# Altium footprint library MLACHQ_S.PCBLIB: 155 footprints (part 3 of 10)
Each footprint in its own frame and in the unit in brackets; x right, y up, seen from the top. Pads: shape width x height; smd on the part's side, far side on the other; paste and mask are expansions set on the pad; w line width, h text height; cw(c..) or ccw(c..) is an arc to the next point about the centre after c.
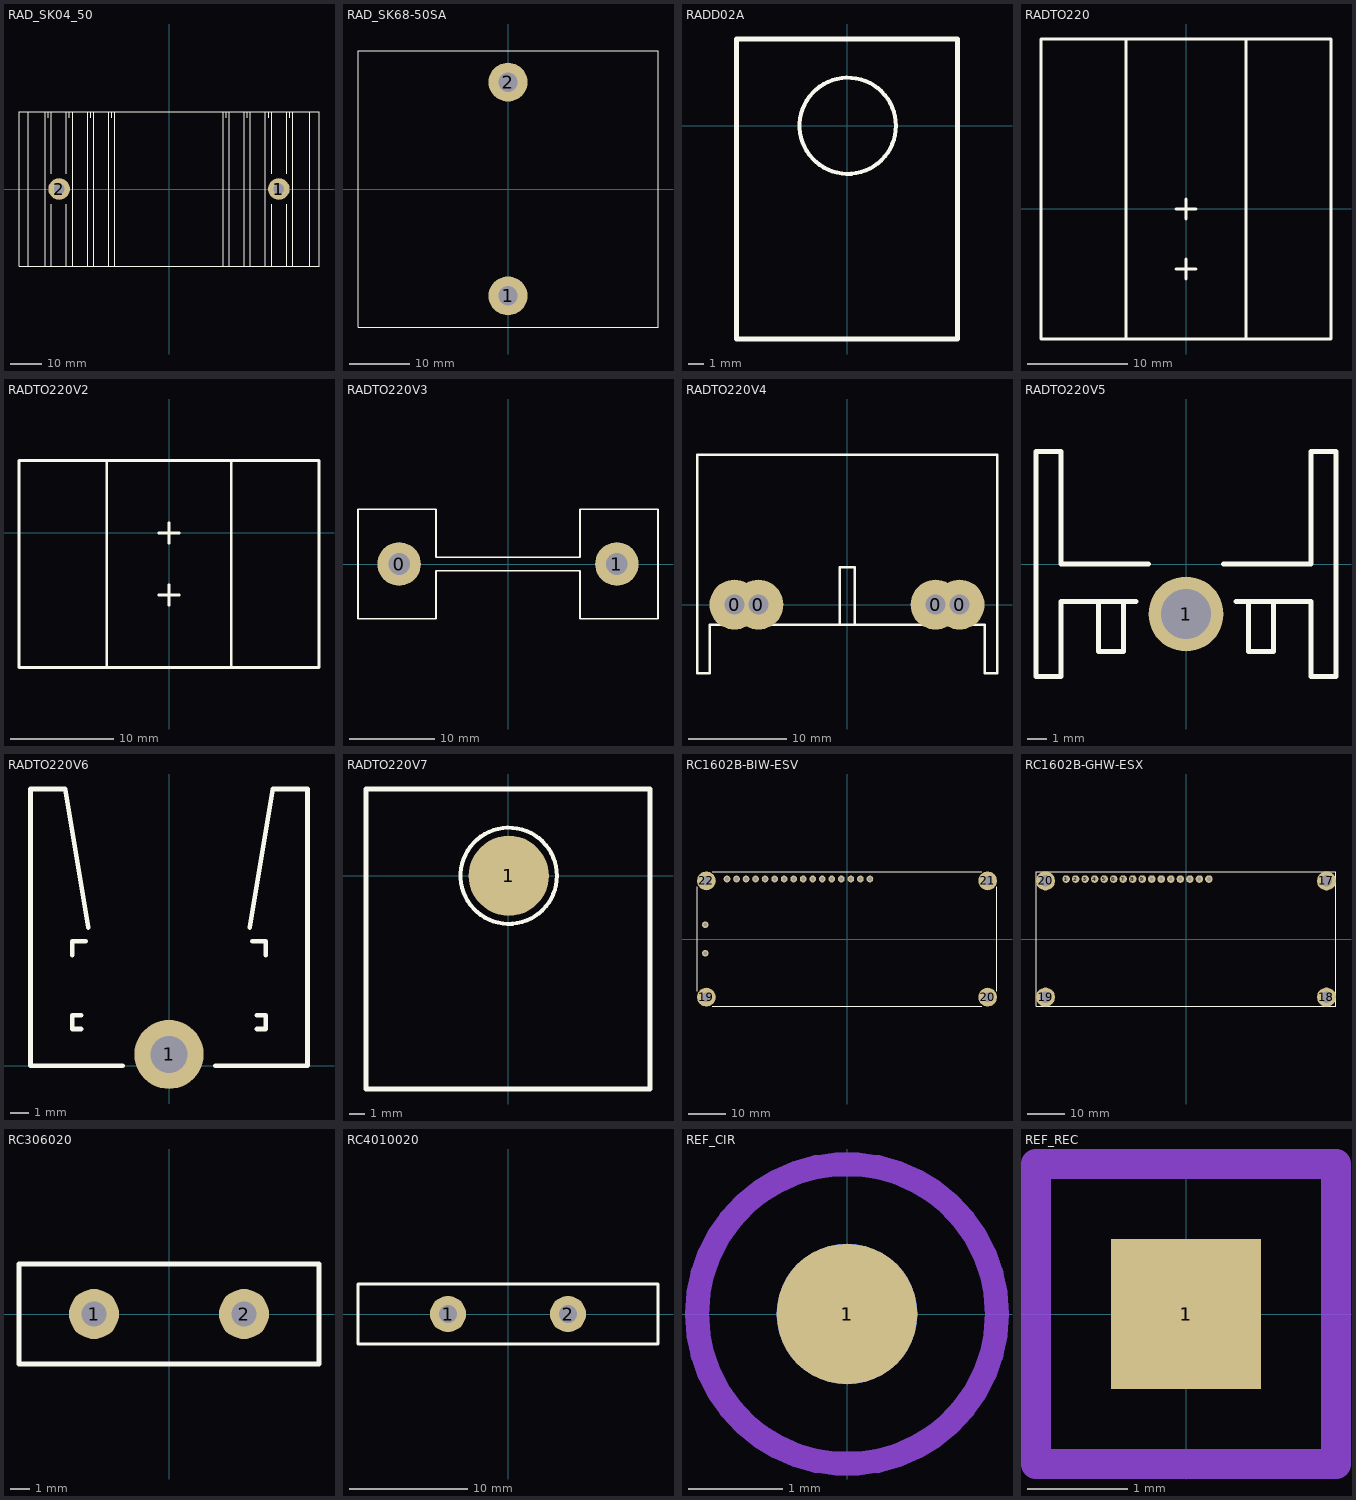
[diagram p2: the footprints below, top view; thin cyan lines are the x and y axes]

## RAD_SK04_50 [mm]
pads (2):
  round 7 hole 3.5: 1(35.5,0) 2(-35.5,0)
TopOverlay:
  lines w0.25: -45.5,-25 -45.5,25 ; -40,-25 -40,25 ; -39,23 -39,25 ; -38,-25 -38,-5 ; -38,5 -38,25 ; -33.2,-25 -33.2,-5 ; -33.2,5 -33.2,25 ; -32.2,23 -32.2,25 ; -31.2,-25 -31.2,25 ; -26.3,-25 -26.3,25 ; -25.3,23 -25.3,25 ; -24.3,-25 -24.3,25 ; -19.5,-25 -19.5,25 ; -18.5,23 -18.5,25 ; -17.5,-25 -17.5,25 ; 17.5,-25 17.5,25 ; 18.5,23 18.5,25 ; 19.5,-25 19.5,25 ; 24.3,-25 24.3,25 ; 25.3,23 25.3,25 ; 26.3,-25 26.3,25 ; 31.2,-25 31.2,25 ; 32.2,23 32.2,25 ; 33.2,-25 33.2,-5 ; 33.2,5 33.2,25 ; 38,-25 38,-5 ; 38,5 38,25 ; 39,23 39,25 ; 40,-25 40,25 ; 45.5,-25 45.5,25 ; -48.5,-25 48.5,-25 48.5,25 -48.5,25 -48.5,-25
3D body: height 4, standoff 0, extent -48.5,-25 48.5,25
3D body: height 25, standoff 1, extent 17.5,-25 19.5,25
3D body: height 25, standoff 1, extent 24.3,-25 26.3,25
3D body: height 25, standoff 1, extent 31.2,-25 33.2,25
3D body: height 25, standoff 1, extent 38,-25 40,25
3D body: height 25, standoff 1, extent 45.5,-25 48.5,25
3D body: height 25, standoff 1, extent -48.5,-25 -45.5,25
3D body: height 25, standoff 1, extent -40,-25 -38,25
3D body: height 25, standoff 1, extent -33.2,-25 -31.2,25
3D body: height 25, standoff 1, extent -26.3,-25 -24.3,25
3D body: height 25, standoff 1, extent -19.5,-25 -17.5,25

## RAD_SK68-50SA [mm]
pads (2):
  round 6.5 hole 3.2 paste+0 mask+0.04: 1(0,-17.8) 2(0,17.8)
TopOverlay:
  lines w0.2: -25,-23 25,-23 25,23 -25,23 -25,-23
3D body: height 25, standoff 23.5, extent -25,-23 25,-13.75
3D body: height 25, standoff 18.5, extent -25,13.75 25,23
3D body: height 31, standoff 0, extent -25,-9 25,-6
3D body: height 31, standoff 0, extent -25,6 25,9
3D body: height 31, standoff 0, extent -25,-1.5 25,1.5
3D body: height 15.5, standoff 11, extent -25,16.75 25,23
3D body: height 20.5, standoff 11, extent -25.05,-23.05 24.95,-16.8
3D body: height 33, standoff 5, extent -25,-16.85 25,-13.75
3D body: height 33, standoff 5, extent -25,13.75 25,16.85
3D body: height 33, standoff 23.5, extent -25,-23 25,-19.9
3D body: height 33, standoff 18.5, extent -25,19.9 25,23
3D body: height 5, standoff 0, extent -25,-16.3 25,16.3
3D body: height 11, standoff 0, extent -25,19.3 25,23
3D body: height 11, standoff 0, extent -25,-23 25,-19.3

## RADD02A [mm]
TopOverlay:
  circle w0.254: c0.05,0.005 r3.048
  lines w0.305: -7,-13.5 7,-13.5 7,5.5 -7,5.5 -7,-13.5

## RADTO220 [mm]
TopOverlay:
  lines w0.254: -6,-13 -6,17 ; -1,-6 1,-6 ; -1,0 1,0 ; 0,-7 0,-5 ; 0,-1 0,1 ; 6,-13 6,17 ; -14.5,-13 -14.5,17 14.5,17 14.5,-13 -14.5,-13

## RADTO220V2 [mm]
TopOverlay:
  lines w0.254: -6,-13 -6,7 ; -1,-6 1,-6 ; -1,0 1,0 ; 0,-7 0,-5 ; 0,-1 0,1 ; 6,-13 6,7 ; -14.5,-13 -14.5,7 14.5,7 14.5,-13 -14.5,-13

## RADTO220V3 [mm]
pads (2):
  round 5.08 hole 2.54: 0(-12.7,0) 1(12.7,0)
TopOverlay:
  lines w0.203: -17.5,-6.4 -17.5,6.4 -8.4,6.4 -8.4,0.8 8.4,0.8 8.4,6.4 17.5,6.4 17.5,-6.4 8.4,-6.4 8.4,-0.8 -8.4,-0.8 -8.4,-6.4 -17.5,-6.4

## RADTO220V4 [mil]
pads (4):
  round 200 hole 80: 0(-450,0) 0(-354.33,0) 0(354.33,0) 0(450,0)
TopOverlay:
  lines w10: -30,-80 -30,150 30,150 30,-80 ; -600,-275 -600,600 600,600 600,-275 550,-275 550,-80 -550,-80 -550,-275 -600,-275

## RADTO220V5 [mm]
pads (1):
  round 3.81 hole 2.54: 1(0,-2.54)
TopOverlay:
  lines w0.254: -4.445,-1.905 -4.445,-4.445 -3.175,-4.445 -3.175,-1.905 ; -2.54,-1.905 -6.35,-1.905 -6.35,-5.715 -7.62,-5.715 -7.62,-1.27 -7.62,0 -7.62,5.715 -6.35,5.715 -6.35,0 -1.905,0 ; 1.905,0 6.35,0 6.35,5.715 7.62,5.715 7.62,0 7.62,-1.27 7.62,-5.715 6.35,-5.715 6.35,-1.905 2.54,-1.905 ; 3.175,-1.905 3.175,-4.445 4.445,-4.445 4.445,-1.905

## RADTO220V6 [mil]
pads (1):
  round 150 hole 80: 1(0,25)
TopOverlay:
  lines w10: -210,240 -210,270 -180,270 ; -190,80 -210,80 -210,110 -190,110 ; -175,300 -225,600 -300,600 -300,0 -100,0 ; 100,0 300,0 300,600 225,600 175,300 ; 180,270 210,270 210,240 ; 190,80 210,80 210,110 190,110

## RADTO220V7 [mm]
pads (1):
  round 5.08 all layers, no hole: 1(0.05,0.005)
TopOverlay:
  circle w0.254: c0.05,0.005 r3.048
  lines w0.305: -9,-13.5 -9,5.5 9,5.5 9,-13.5 -9,-13.5

## RC1602B-BIW-ESV [mm]
pads (22):
  round 1.8 hole 1: 1(-32,16) 2(-29.46,16) 3(-26.92,16) 4(-24.38,16) 5(-21.84,16) 6(-19.3,16) 7(-16.76,16) 8(-14.22,16) 9(-11.68,16) 10(-9.14,16) 11(-6.6,16) 12(-4.06,16) 13(-1.52,16) 14(1.02,16) 15(3.56,16) 16(6.1,16) 17(-37.8,-3.8) 18(-37.8,3.8)
  round 5 hole 2.5: 19(-37.5,-15.5) 20(37.5,-15.5) 21(37.5,15.5) 22(-37.5,15.5)
TopOverlay:
  lines w0.2: -40,-13.9 -40,13.9 ; -35.9,-18 35.9,-18 ; -35.9,18 35.9,18 ; 40,-13.9 40,13.9
3D body: height 13.5, standoff 10, extent -32.5,-8.3 33.6,7.7
3D body: height 13.4, standoff 4.6, extent -35.1,-13 35.2,12.3
3D body: height 4.6, standoff 3, extent -40,-18 40,18

## RC1602B-GHW-ESX [mil]
pads (20):
  round 80 hole 40: 1(-1259.84,629.92) 2(-1159.84,629.92) 3(-1059.84,629.92) 4(-959.84,629.92) 5(-859.84,629.92) 6(-759.84,629.92) 7(-659.84,629.92) 8(-559.84,629.92) 9(-459.84,629.92) 10(-359.84,629.92) 11(-259.84,629.92) 12(-159.84,629.92) 13(-59.84,629.92) 14(40.16,629.92) 15(140.16,629.92) 16(240.16,629.92)
  round 200 hole 120: 17(1476.38,610.24) 18(1476.38,-610.24) 19(-1476.38,-610.24) 20(-1476.38,610.24)
TopOverlay:
  lines w8: -1574.8,-708.66 1574.8,-708.66 1574.8,708.66 -1574.8,708.66 -1574.8,-708.66

## RC306020 [mm]
pads (2):
  round 2.54 hole 1.27: 1(-3.81,0) 2(3.81,0)
TopOverlay:
  lines w0.254: -7.62,-2.54 -7.62,2.54 7.62,2.54 7.62,-2.54 -7.62,-2.54

## RC4010020 [mil]
pads (2):
  round 120 hole 60: 1(-200,0) 2(200,0)
TopOverlay:
  lines w10: -500,-100 -500,100 500,100 500,-100 -500,-100

## REF_CIR [mm]
height 2.54
pads (2):
  round 1.5 smd paste-0.75 mask+0.75: 1(0,0)
  round 1.5 smd far side paste-0.75 mask+0.75: 1(0,0)
TopLayer keep-out:
  circle w0.254: c0,0 r1.6
BottomLayer keep-out:
  circle w0.254: c0,0 r1.6

## REF_REC [mm]
height 2.54
pads (2):
  rect 1.5x1.5 smd paste-0.75 mask+0.75: 1(0,0)
  rect 1.5x1.5 smd far side paste-0.75 mask+0.75: 1(0,0)
TopLayer keep-out:
  lines w0.254: -1.5,-1.5 -1.5,1.5 1.5,1.5 1.5,-1.5 -1.5,-1.5
BottomLayer keep-out:
  lines w0.3: -1.5,-1.5 1.5,-1.5 1.5,1.5 -1.5,1.5 -1.5,-1.5